# Altium schematic symbol library DIODE_ZENER_2pin.Schlib: 1 symbol
Pins are listed as number, name and electrical type; pins without a type are passive.

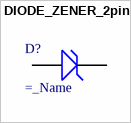
[diagram p0: symbol DIODE_ZENER_2pin]

## DIODE_ZENER_2pin
designator D?  (value not drawn)
=description; Value: =_Name
pins: 1 A, 2 K